# Altium integrated library TI Power Management Lighting and Display.IntLib: 745 symbols (part 20 of 48)
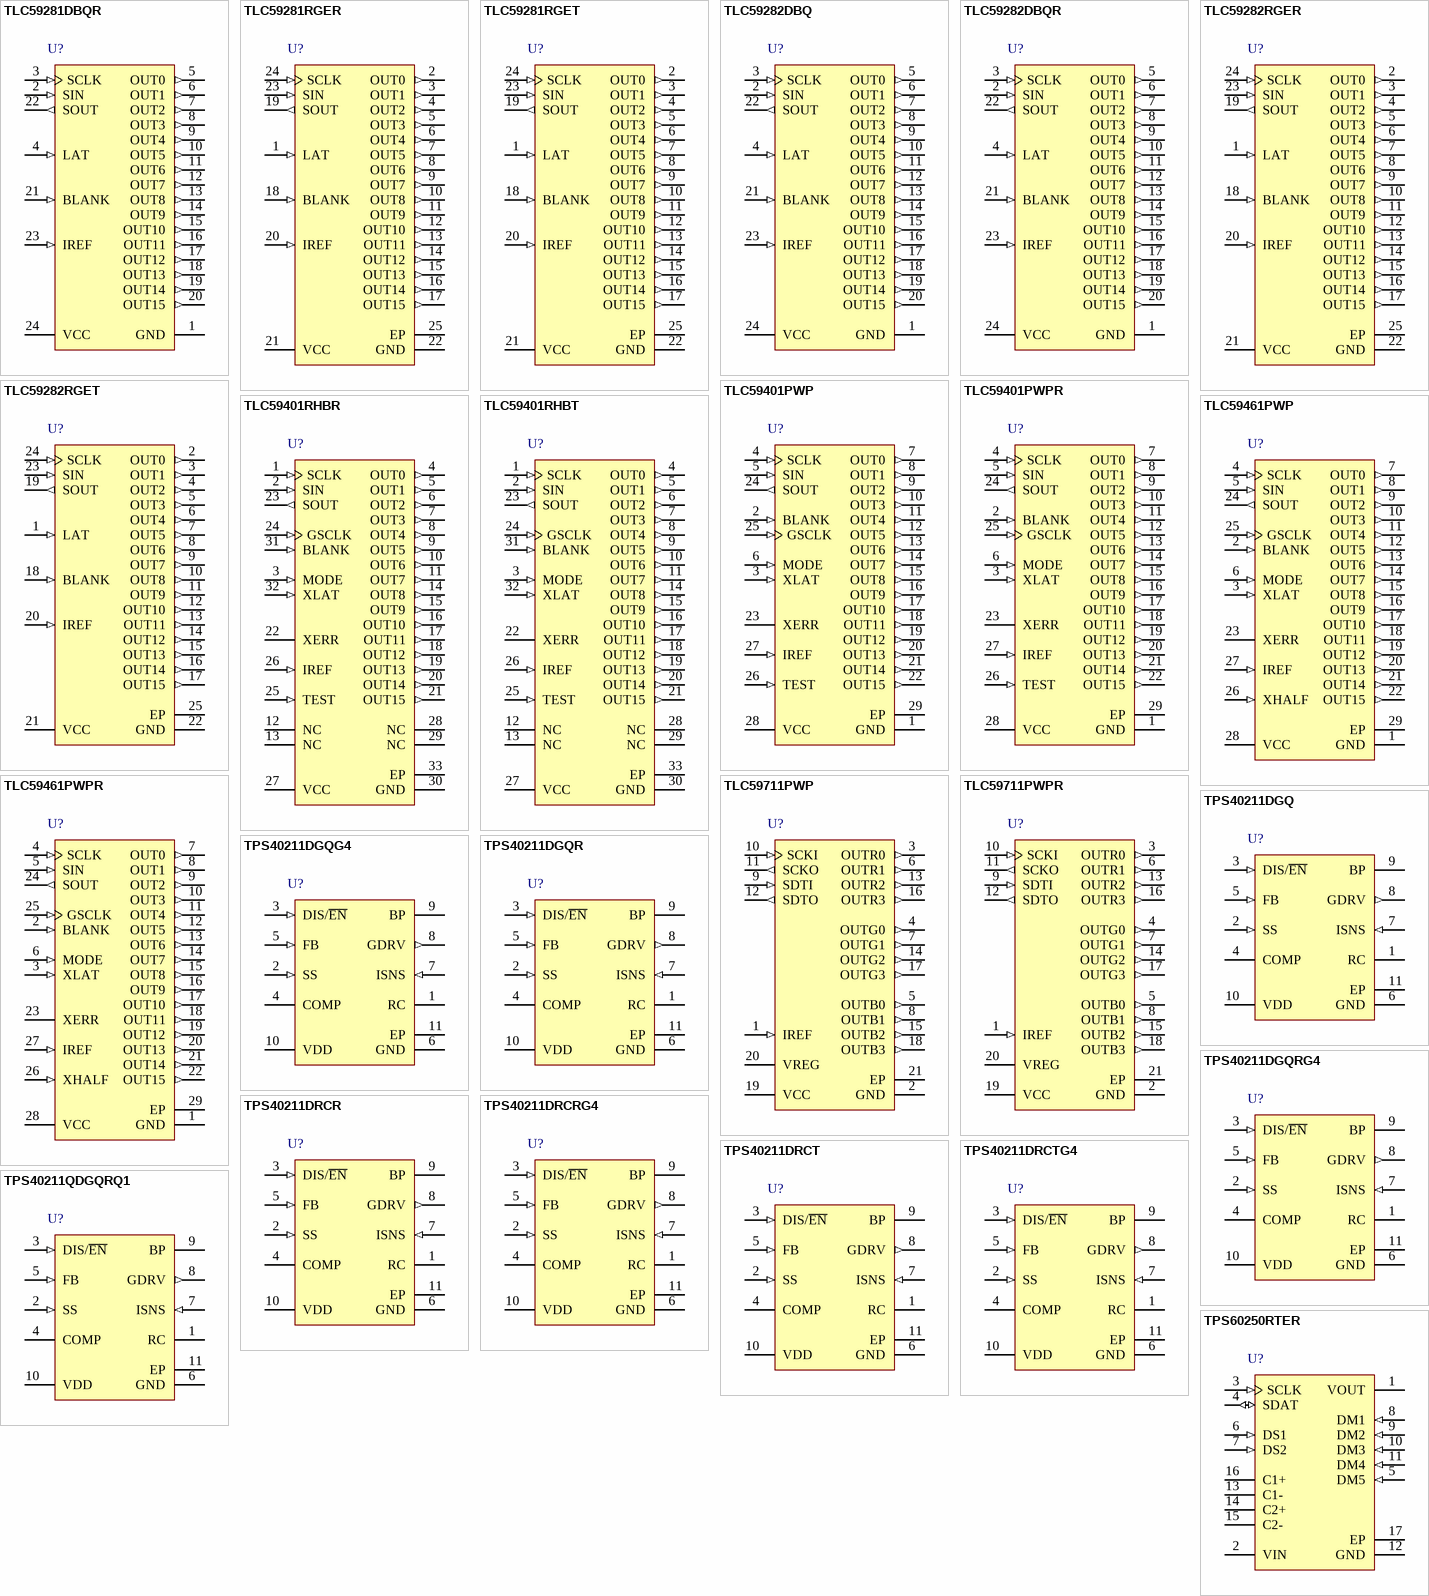
[diagram p50: symbols TLC59281DBQR to TPS60250RTER]

## TLC59281RGET
designator U?
16-Channel, Constant-Current LED Driver without LED Open Detection, 3 to 5.5 V, -40 to 85 degC, 24-pin QFN (RGE24), Green (RoHS & no Sb/Br); Manufacturer: Texas Instruments; PartNumber: TLC59281RGET; Rating: Catalog; Vin(Max)(V): 5.5; Vin(Min)(V): 3; DatasheetVersion: SBVS139B; PackageVersion: 4204104/G; PackageReference: RGE24-2100X2100TP; PackageDescription: 24-Pin Plastic Flat Pack, Body 4 x 4 mm, Pitch 0.5 mm; Supplier 1: Digi-Key; Supplier Part Number 1: 296-32360-2-ND; Supplier 2: Digi-Key; Supplier Part Number 2: 296-32360-1-ND; Supplier 3: Digi-Key; Supplier Part Number 3: 296-32360-6-ND; Supplier 4: Newark; Supplier Part Number 4: 72R6576; Supplier 5: Mouser; Supplier Part Number 5: 595-TLC59281RGET; Eco-Plan: Green (RoHS & no Sb/Br); SubFamily: LED Driver; Mounting Technology: Surface Mount; Code_JEDEC: MO-220; ComponentLink1Description: Manufacturer URL; ComponentLink1URL: http://www.ti.com/; ComponentLink2Description: Datasheet; ComponentLink2URL: http://www.ti.com/general/docs/lit/getliterature.tsp?genericPartNumber=TLC59281&fileType=pdf; ComponentLink3Description: Package Specification; ComponentLink3URL: http://www.ti.com/litv/pdf/mpqf124f
footprint TI-RGE24-2100X2100TP_V (QFN, 24-Leads, Body 4x4mm, Pitch 0.5mm, Thermal Pad 2.1x2.1mm)
pins: 1 LAT (in) "Edge triggered latch. The data in the on/off control data shift register are transferred to the on/off control data latch at this rising edge. At the same time, the data in the on/off control shift register are replaced with (See Datasheet)", 2 OUT0 (out) "Constant-current output.Each output can be tied together with others to increase the Constant-current. Different voltages can be applied to each output.", 3 OUT1 (out) "Constant-current output", 4 OUT2 (out) "Constant-current output", 5 OUT3 (out) "Constant-current output", 6 OUT4 (out) "Constant-current output", 7 OUT5 (out) "Constant-current output", 8 OUT6 (out) "Constant-current output", 9 OUT7 (out) "Constant-current output", 10 OUT8 (out) "Constant-current output", 11 OUT9 (out) "Constant-current output", 12 OUT10 (out) "Constant-current output", 13 OUT11 (out) "Constant-current output", 14 OUT12 (out) "Constant-current output", 15 OUT13 (out) "Constant-current output", 16 OUT14 (out) "Constant-current output", 17 OUT15 (out) "Constant-current output", 18 BLANK (in) "Blank, all outputs. When BLANK = high level, all constant-current outputs (OUT0-OUT15) are forced off.When BLANK=low level, all constant-current outputs are controlled by the on/off control data in the data latch.LOD and PTW (See Datasheet)", 19 SOUT (out) "Serial data onput. This output is connected to the MSB of the on/off data shift register .SOUT data changes at the rising edge of SCLK.", 20 IREF (in) "Constant-current value setting.OUT0-OUT15 sink Constant-current is set to desired value by connection to an external resistor between IREF and GND.", 21 VCC (power) "Power-supply voltage", 22 GND (power) "Power ground", 23 SIN (in) "Serial data input for driver on/off control. When SIN=high level, data '1' are written into LSB of the on/off control shift register at the rising edge of SCLK.", 24 SCLK (in) "Serial data shift clock. Schmitt buffer input. All data in the on/off control shift register are shifted toward the MSB by 1-bit synchronization of SCLK. A rising edge on SCLK is allowed 100 ns after a rising edge of LAT.", 25 EP (power) "Thermal pad is not connected to GND internally. The thermal pad must be connected to GND via the PCB pattern."

## TLC59282DBQ
designator U?
16-Channel Constant Current LED Driver with 4-Channel Grouped Delay, 3 to 5.5 V, -40 to 85 degC, 24-pin SOP (DBQ24), Green (RoHS & no Sb/Br); Manufacturer: Texas Instruments; PartNumber: TLC59282DBQ; Vin(Max)(V): 5.5; Vin(Min)(V): 3; DatasheetVersion: SBVS152C; PackageVersion: 4073301-4/H; PackageReference: DBQ24; PackageDescription: 24-Pin Plastic Small-Outline, Body 8.65 x 3.90 mm, Pitch 0.635 mm; Supplier 1: Digi-Key; Supplier Part Number 1: 296-31393-ND; Supplier 2: Newark; Supplier Part Number 2: 24T4761; Supplier 3: Mouser; Supplier Part Number 3: 595-TLC59282DBQ; Eco-Plan: Green (RoHS & no Sb/Br); SubFamily: LED Driver; Mounting Technology: Surface Mount; Code_JEDEC: MO-137; ComponentLink1Description: Manufacturer URL; ComponentLink1URL: http://www.ti.com/; ComponentLink2Description: Datasheet; ComponentLink2URL: http://www.ti.com/general/docs/lit/getliterature.tsp?genericPartNumber=TLC59282&fileType=pdf; ComponentLink3Description: Package Specification; ComponentLink3URL: http://www.ti.com/litv/pdf/mpds211a
footprint TI-DBQ24_N (SOP, 24-Leads, Body 8.65x6mm, Pitch 0.635mm, IPC Medium Density)
footprint TI-DBQ24_L (SOP, 24-Leads, Body 8.65x6mm, Pitch 0.635mm, IPC High Density)
footprint TI-DBQ24_M (SOP, 24-Leads, Body 8.65x6mm, Pitch 0.635mm, IPC Low Density)
pins: 1 GND (power) "Power ground", 2 SIN (in) "Serial data input for driver on/off control. When SIN=high level, data '1' are written into LSB of the on/off control shift register at the rising edge of SCLK.", 3 SCLK (in) "Serial data shift clock. Schmitt buffer input. All data in the on/off control shift register are shifted toward the MSB by 1-bit synchronization of SCLK. A rising edge on SCLK is allowed 100 ns after a rising edge of LAT.", 4 LAT (in) "Edge triggered latch. The data in the on/off control data shift register are transferred to the on/off control data latch at this rising edge. At the same time, the data in the on/off control shift register are replaced with (See Datasheet)", 5 OUT0 (out) "Constant-current output.Each output can be tied together with others to increase the Constant-current. Different voltages can be applied to each output.", 6 OUT1 (out) "Constant-current output", 7 OUT2 (out) "Constant-current output", 8 OUT3 (out) "Constant-current output", 9 OUT4 (out) "Constant-current output", 10 OUT5 (out) "Constant-current output", 11 OUT6 (out) "Constant-current output", 12 OUT7 (out) "Constant-current output", 13 OUT8 (out) "Constant-current output", 14 OUT9 (out) "Constant-current output", 15 OUT10 (out) "Constant-current output", 16 OUT11 (out) "Constant-current output", 17 OUT12 (out) "Constant-current output", 18 OUT13 (out) "Constant-current output", 19 OUT14 (out) "Constant-current output", 20 OUT15 (out) "Constant-current output", 21 BLANK (in) "Blank, all outputs. When BLANK = high level, all constant-current outputs (OUT0-OUT15) are forced off.When BLANK=low level, all constant-current outputs are controlled by the on/off control data in the data latch.LOD and PTW (See Datasheet)", 22 SOUT (out) "Serial data onput. This output is connected to the MSB of the on/off data shift register .SOUT data changes at the rising edge of SCLK.", 23 IREF (in) "Constant-current value setting.OUT0-OUT15 sink Constant-current is set to desired value by connection to an external resistor between IREF and GND.", 24 VCC (power) "Power-supply voltage"

## TLC59282DBQR
designator U?
16-Channel Constant Current LED Driver with 4-Channel Grouped Delay, 3 to 5.5 V, -40 to 85 degC, 24-pin SOP (DBQ24), Green (RoHS & no Sb/Br); Manufacturer: Texas Instruments; PartNumber: TLC59282DBQR; Vin(Max)(V): 5.5; Vin(Min)(V): 3; DatasheetVersion: SBVS152C; PackageVersion: 4073301-4/H; PackageReference: DBQ24; PackageDescription: 24-Pin Plastic Small-Outline, Body 8.65 x 3.90 mm, Pitch 0.635 mm; Supplier 1: Digi-Key; Supplier Part Number 1: 296-28098-2-ND; Supplier 2: Digi-Key; Supplier Part Number 2: 296-28098-1-ND; Supplier 3: Digi-Key; Supplier Part Number 3: 296-28098-6-ND; Supplier 4: Newark; Supplier Part Number 4: 24T4762; Supplier 5: Mouser; Supplier Part Number 5: 595-TLC59282DBQR; Eco-Plan: Green (RoHS & no Sb/Br); SubFamily: LED Driver; Mounting Technology: Surface Mount; Code_JEDEC: MO-137; ComponentLink1Description: Manufacturer URL; ComponentLink1URL: http://www.ti.com/; ComponentLink2Description: Datasheet; ComponentLink2URL: http://www.ti.com/general/docs/lit/getliterature.tsp?genericPartNumber=TLC59282&fileType=pdf; ComponentLink3Description: Package Specification; ComponentLink3URL: http://www.ti.com/litv/pdf/mpds211a
footprint TI-DBQ24_N (SOP, 24-Leads, Body 8.65x6mm, Pitch 0.635mm, IPC Medium Density)
footprint TI-DBQ24_L (SOP, 24-Leads, Body 8.65x6mm, Pitch 0.635mm, IPC High Density)
footprint TI-DBQ24_M (SOP, 24-Leads, Body 8.65x6mm, Pitch 0.635mm, IPC Low Density)
pins: 1 GND (power) "Power ground", 2 SIN (in) "Serial data input for driver on/off control. When SIN=high level, data '1' are written into LSB of the on/off control shift register at the rising edge of SCLK.", 3 SCLK (in) "Serial data shift clock. Schmitt buffer input. All data in the on/off control shift register are shifted toward the MSB by 1-bit synchronization of SCLK. A rising edge on SCLK is allowed 100 ns after a rising edge of LAT.", 4 LAT (in) "Edge triggered latch. The data in the on/off control data shift register are transferred to the on/off control data latch at this rising edge. At the same time, the data in the on/off control shift register are replaced with (See Datasheet)", 5 OUT0 (out) "Constant-current output.Each output can be tied together with others to increase the Constant-current. Different voltages can be applied to each output.", 6 OUT1 (out) "Constant-current output", 7 OUT2 (out) "Constant-current output", 8 OUT3 (out) "Constant-current output", 9 OUT4 (out) "Constant-current output", 10 OUT5 (out) "Constant-current output", 11 OUT6 (out) "Constant-current output", 12 OUT7 (out) "Constant-current output", 13 OUT8 (out) "Constant-current output", 14 OUT9 (out) "Constant-current output", 15 OUT10 (out) "Constant-current output", 16 OUT11 (out) "Constant-current output", 17 OUT12 (out) "Constant-current output", 18 OUT13 (out) "Constant-current output", 19 OUT14 (out) "Constant-current output", 20 OUT15 (out) "Constant-current output", 21 BLANK (in) "Blank, all outputs. When BLANK = high level, all constant-current outputs (OUT0-OUT15) are forced off.When BLANK=low level, all constant-current outputs are controlled by the on/off control data in the data latch.LOD and PTW (See Datasheet)", 22 SOUT (out) "Serial data onput. This output is connected to the MSB of the on/off data shift register .SOUT data changes at the rising edge of SCLK.", 23 IREF (in) "Constant-current value setting.OUT0-OUT15 sink Constant-current is set to desired value by connection to an external resistor between IREF and GND.", 24 VCC (power) "Power-supply voltage"

## TLC59282RGER
designator U?
16-Channel Constant Current LED Driver with 4-Channel Grouped Delay, 3 to 5.5 V, -40 to 85 degC, 24-pin QFN (RGE24), Green (RoHS & no Sb/Br); Manufacturer: Texas Instruments; PartNumber: TLC59282RGER; Vin(Max)(V): 5.5; Vin(Min)(V): 3; DatasheetVersion: SBVS152C; PackageVersion: 4204104/G; PackageReference: RGE24-2100X2100TP; PackageDescription: 24-Pin Plastic Flat Pack, Body 4 x 4 mm, Pitch 0.5 mm; Supplier 1: Digi-Key; Supplier Part Number 1: 296-29400-2-ND; Supplier 2: Digi-Key; Supplier Part Number 2: 296-29400-1-ND; Supplier 3: Digi-Key; Supplier Part Number 3: 296-29400-6-ND; Supplier 4: Mouser; Supplier Part Number 4: 595-TLC59282RGER; Eco-Plan: Green (RoHS & no Sb/Br); SubFamily: LED Driver; Mounting Technology: Surface Mount; Code_JEDEC: MO-220; ComponentLink1Description: Manufacturer URL; ComponentLink1URL: http://www.ti.com/; ComponentLink2Description: Datasheet; ComponentLink2URL: http://www.ti.com/general/docs/lit/getliterature.tsp?genericPartNumber=TLC59282&fileType=pdf; ComponentLink3Description: Package Specification; ComponentLink3URL: http://www.ti.com/litv/pdf/mpqf124f
footprint TI-RGE24-2100X2100TP_V (QFN, 24-Leads, Body 4x4mm, Pitch 0.5mm, Thermal Pad 2.1x2.1mm)
pins: 1 LAT (in) "Edge triggered latch. The data in the on/off control data shift register are transferred to the on/off control data latch at this rising edge. At the same time, the data in the on/off control shift register are replaced with (See Datasheet)", 2 OUT0 (out) "Constant-current output.Each output can be tied together with others to increase the Constant-current. Different voltages can be applied to each output.", 3 OUT1 (out) "Constant-current output", 4 OUT2 (out) "Constant-current output", 5 OUT3 (out) "Constant-current output", 6 OUT4 (out) "Constant-current output", 7 OUT5 (out) "Constant-current output", 8 OUT6 (out) "Constant-current output", 9 OUT7 (out) "Constant-current output", 10 OUT8 (out) "Constant-current output", 11 OUT9 (out) "Constant-current output", 12 OUT10 (out) "Constant-current output", 13 OUT11 (out) "Constant-current output", 14 OUT12 (out) "Constant-current output", 15 OUT13 (out) "Constant-current output", 16 OUT14 (out) "Constant-current output", 17 OUT15 (out) "Constant-current output", 18 BLANK (in) "Blank, all outputs. When BLANK = high level, all constant-current outputs (OUT0-OUT15) are forced off.When BLANK=low level, all constant-current outputs are controlled by the on/off control data in the data latch.LOD and PTW (See Datasheet)", 19 SOUT (out) "Serial data onput. This output is connected to the MSB of the on/off data shift register .SOUT data changes at the rising edge of SCLK.", 20 IREF (in) "Constant-current value setting.OUT0-OUT15 sink Constant-current is set to desired value by connection to an external resistor between IREF and GND.", 21 VCC (power) "Power-supply voltage", 22 GND (power) "Power ground", 23 SIN (in) "Serial data input for driver on/off control. When SIN=high level, data '1' are written into LSB of the on/off control shift register at the rising edge of SCLK.", 24 SCLK (in) "Serial data shift clock. Schmitt buffer input. All data in the on/off control shift register are shifted toward the MSB by 1-bit synchronization of SCLK. A rising edge on SCLK is allowed 100 ns after a rising edge of LAT.", 25 EP (power) "Thermal pad is not connected to GND internally. The thermal pad must be connected to GND via the PCB pattern."

## TLC59282RGET
designator U?
16-Channel Constant Current LED Driver with 4-Channel Grouped Delay, 3 to 5.5 V, -40 to 85 degC, 24-pin QFN (RGE24), Green (RoHS & no Sb/Br); Manufacturer: Texas Instruments; PartNumber: TLC59282RGET; Vin(Max)(V): 5.5; Vin(Min)(V): 3; DatasheetVersion: SBVS152C; PackageVersion: 4204104/G; PackageReference: RGE24-2100X2100TP; PackageDescription: 24-Pin Plastic Flat Pack, Body 4 x 4 mm, Pitch 0.5 mm; Supplier 1: Digi-Key; Supplier Part Number 1: 296-29518-2-ND; Supplier 2: Digi-Key; Supplier Part Number 2: 296-29518-1-ND; Supplier 3: Digi-Key; Supplier Part Number 3: 296-29518-6-ND; Supplier 4: Farnell; Supplier Part Number 4: 2057097; Supplier 5: Newark; Supplier Part Number 5: 64T4157; Supplier 6: Newark; Supplier Part Number 6: 61T6003; Supplier 7: Mouser; Supplier Part Number 7: 595-TLC59282RGET; Eco-Plan: Green (RoHS & no Sb/Br); SubFamily: LED Driver; Mounting Technology: Surface Mount; Code_JEDEC: MO-220; ComponentLink1Description: Manufacturer URL; ComponentLink1URL: http://www.ti.com/; ComponentLink2Description: Datasheet; ComponentLink2URL: http://www.ti.com/general/docs/lit/getliterature.tsp?genericPartNumber=TLC59282&fileType=pdf; ComponentLink3Description: Package Specification; ComponentLink3URL: http://www.ti.com/litv/pdf/mpqf124f
footprint TI-RGE24-2100X2100TP_V (QFN, 24-Leads, Body 4x4mm, Pitch 0.5mm, Thermal Pad 2.1x2.1mm)
pins: 1 LAT (in) "Edge triggered latch. The data in the on/off control data shift register are transferred to the on/off control data latch at this rising edge. At the same time, the data in the on/off control shift register are replaced with (See Datasheet)", 2 OUT0 (out) "Constant-current output.Each output can be tied together with others to increase the Constant-current. Different voltages can be applied to each output.", 3 OUT1 (out) "Constant-current output", 4 OUT2 (out) "Constant-current output", 5 OUT3 (out) "Constant-current output", 6 OUT4 (out) "Constant-current output", 7 OUT5 (out) "Constant-current output", 8 OUT6 (out) "Constant-current output", 9 OUT7 (out) "Constant-current output", 10 OUT8 (out) "Constant-current output", 11 OUT9 (out) "Constant-current output", 12 OUT10 (out) "Constant-current output", 13 OUT11 (out) "Constant-current output", 14 OUT12 (out) "Constant-current output", 15 OUT13 (out) "Constant-current output", 16 OUT14 (out) "Constant-current output", 17 OUT15 (out) "Constant-current output", 18 BLANK (in) "Blank, all outputs. When BLANK = high level, all constant-current outputs (OUT0-OUT15) are forced off.When BLANK=low level, all constant-current outputs are controlled by the on/off control data in the data latch.LOD and PTW (See Datasheet)", 19 SOUT (out) "Serial data onput. This output is connected to the MSB of the on/off data shift register .SOUT data changes at the rising edge of SCLK.", 20 IREF (in) "Constant-current value setting.OUT0-OUT15 sink Constant-current is set to desired value by connection to an external resistor between IREF and GND.", 21 VCC (power) "Power-supply voltage", 22 GND (power) "Power ground", 23 SIN (in) "Serial data input for driver on/off control. When SIN=high level, data '1' are written into LSB of the on/off control shift register at the rising edge of SCLK.", 24 SCLK (in) "Serial data shift clock. Schmitt buffer input. All data in the on/off control shift register are shifted toward the MSB by 1-bit synchronization of SCLK. A rising edge on SCLK is allowed 100 ns after a rising edge of LAT.", 25 EP (power) "Thermal pad is not connected to GND internally. The thermal pad must be connected to GND via the PCB pattern."

## TLC59401PWP
designator U?
16-Channel LED Driver with DOT Correction and Grayscale PWM Control, 3 to 5.5 V, -40 to 85 degC, 28-pin SOP (PWP28), Green (RoHS & no Sb/Br); Manufacturer: Texas Instruments; PartNumber: TLC59401PWP; Rating: Catalog; Vin(Max)(V): 5.5; Vin(Min)(V): 3; DatasheetVersion: SBVS137; PackageVersion: 4073225-6/I; PackageReference: PWP28-5720X1950TP; PackageDescription: 28-Pin Plastic Small Outline, Body 4.4 x 9.7 mm, Pitch 0.65 mm; Supplier 1: Digi-Key; Supplier Part Number 1: TLC59401PWP-ND; Supplier 2: Newark; Supplier Part Number 2: 64R0661; Supplier 3: Mouser; Supplier Part Number 3: 595-TLC59401PWP; Eco-Plan: Green (RoHS & no Sb/Br); SubFamily: LED Driver; Mounting Technology: Surface Mount; Code_JEDEC: MO-153; ComponentLink1Description: Manufacturer URL; ComponentLink1URL: http://www.ti.com/; ComponentLink2Description: Datasheet; ComponentLink2URL: http://www.ti.com/general/docs/lit/getliterature.tsp?genericPartNumber=TLC59401&fileType=pdf; ComponentLink3Description: Package Specification; ComponentLink3URL: http://www.ti.com/litv/pdf/mpds373
footprint TI-PWP28-5720X1950TP_N (SOP, 28-Leads, Body 9.7x4.4mm, Pitch 0.65mm, Thermal Pad 5.72 x 1.95mm, IPC Medium Density)
footprint TI-PWP28-5720X1950TP_L (SOP, 28-Leads, Body 9.7x4.4mm, Pitch 0.65mm, Thermal Pad 5.72 x 1.95mm, IPC High Density)
footprint TI-PWP28-5720X1950TP_M (SOP, 28-Leads, Body 9.7x4.4mm, Pitch 0.65mm, Thermal Pad 5.72 x 1.95mm, IPC Low Density)
pins: 1 GND (power) "Ground", 2 BLANK (in) "Blank all outputs. When BLANK is high, all OUTn outputs are forced OFF. GS counter is also reset. When BLANK is low, OUTn are controlled by the grayscale PWM control.", 3 XLAT (in) "Level triggered latch signal. When XLAT is high, the TLC59401 writes data from the input shift register to either GS register (MODE is low) or DC register (MODE is high). When XLAT is low, the data in the GS or DC registers (See Datasheet)", 4 SCLK (in) "Serial data shift clock", 5 SIN (in) "Serial data input", 6 MODE (in) "Input mode-change pin. When MODE = GND, the device is in GS mode. When MODE = VCC, the device is in DC mode.", 7 OUT0 (out) "Constant-current output. Multiple outputs can be configured in parallel to increase the constant-current capability. Different voltages can be applied to each output.", 8 OUT1 (out) "Constant-current output", 9 OUT2 (out) "Constant-current output", 10 OUT3 (out) "Constant-current output", 11 OUT4 (out) "Constant-current output", 12 OUT5 (out) "Constant-current output", 13 OUT6 (out) "Constant-current output", 14 OUT7 (out) "Constant-current output", 15 OUT8 (out) "Constant-current output", 16 OUT9 (out) "Constant-current output", 17 OUT10 (out) "Constant-current output", 18 OUT11 (out) "Constant-current output", 19 OUT12 (out) "Constant-current output", 20 OUT13 (out) "Constant-current output", 21 OUT14 (out) "Constant-current output", 22 OUT15 (out) "Constant-current output", 23 XERR (hiz) "Error output. XERR is an open-drain terminal. XERR goes low when LOD or TEF is detected.", 24 SOUT (out) "Serial data output", 25 GSCLK (in) "Reference clock for grayscale PWM control", 26 TEST (in) "Test pin: TEST must be connected to VCC", 27 IREF (in) "Reference current terminal. The maximum current for the outputs OUT0-OUT15 is set with a resistor from IREF to GND. Any capacitance does not need to be connected between IREF and GND.", 28 VCC (power) "Power-supply voltage", 29 EP

## TLC59401PWPR
designator U?
16-Channel LED Driver with DOT Correction and Grayscale PWM Control, 3 to 5.5 V, -40 to 85 degC, 28-pin SOP (PWP28), Green (RoHS & no Sb/Br); Manufacturer: Texas Instruments; PartNumber: TLC59401PWPR; Rating: Catalog; Vin(Max)(V): 5.5; Vin(Min)(V): 3; DatasheetVersion: SBVS137; PackageVersion: 4073225-6/I; PackageReference: PWP28-5720X1950TP; PackageDescription: 28-Pin Plastic Small Outline, Body 4.4 x 9.7 mm, Pitch 0.65 mm; Supplier 1: Digi-Key; Supplier Part Number 1: 296-25565-2-ND; Supplier 2: Digi-Key; Supplier Part Number 2: 296-25565-1-ND; Supplier 3: Digi-Key; Supplier Part Number 3: 296-25565-6-ND; Supplier 4: Newark; Supplier Part Number 4: 64R0662; Supplier 5: Mouser; Supplier Part Number 5: 595-TLC59401PWPR; Eco-Plan: Green (RoHS & no Sb/Br); SubFamily: LED Driver; Mounting Technology: Surface Mount; Code_JEDEC: MO-153; ComponentLink1Description: Manufacturer URL; ComponentLink1URL: http://www.ti.com/; ComponentLink2Description: Datasheet; ComponentLink2URL: http://www.ti.com/general/docs/lit/getliterature.tsp?genericPartNumber=TLC59401&fileType=pdf; ComponentLink3Description: Package Specification; ComponentLink3URL: http://www.ti.com/litv/pdf/mpds373
footprint TI-PWP28-5720X1950TP_N (SOP, 28-Leads, Body 9.7x4.4mm, Pitch 0.65mm, Thermal Pad 5.72 x 1.95mm, IPC Medium Density)
footprint TI-PWP28-5720X1950TP_L (SOP, 28-Leads, Body 9.7x4.4mm, Pitch 0.65mm, Thermal Pad 5.72 x 1.95mm, IPC High Density)
footprint TI-PWP28-5720X1950TP_M (SOP, 28-Leads, Body 9.7x4.4mm, Pitch 0.65mm, Thermal Pad 5.72 x 1.95mm, IPC Low Density)
pins: 1 GND (power) "Ground", 2 BLANK (in) "Blank all outputs. When BLANK is high, all OUTn outputs are forced OFF. GS counter is also reset. When BLANK is low, OUTn are controlled by the grayscale PWM control.", 3 XLAT (in) "Level triggered latch signal. When XLAT is high, the TLC59401 writes data from the input shift register to either GS register (MODE is low) or DC register (MODE is high). When XLAT is low, the data in the GS or DC registers (See Datasheet)", 4 SCLK (in) "Serial data shift clock", 5 SIN (in) "Serial data input", 6 MODE (in) "Input mode-change pin. When MODE = GND, the device is in GS mode. When MODE = VCC, the device is in DC mode.", 7 OUT0 (out) "Constant-current output. Multiple outputs can be configured in parallel to increase the constant-current capability. Different voltages can be applied to each output.", 8 OUT1 (out) "Constant-current output", 9 OUT2 (out) "Constant-current output", 10 OUT3 (out) "Constant-current output", 11 OUT4 (out) "Constant-current output", 12 OUT5 (out) "Constant-current output", 13 OUT6 (out) "Constant-current output", 14 OUT7 (out) "Constant-current output", 15 OUT8 (out) "Constant-current output", 16 OUT9 (out) "Constant-current output", 17 OUT10 (out) "Constant-current output", 18 OUT11 (out) "Constant-current output", 19 OUT12 (out) "Constant-current output", 20 OUT13 (out) "Constant-current output", 21 OUT14 (out) "Constant-current output", 22 OUT15 (out) "Constant-current output", 23 XERR (hiz) "Error output. XERR is an open-drain terminal. XERR goes low when LOD or TEF is detected.", 24 SOUT (out) "Serial data output", 25 GSCLK (in) "Reference clock for grayscale PWM control", 26 TEST (in) "Test pin: TEST must be connected to VCC", 27 IREF (in) "Reference current terminal. The maximum current for the outputs OUT0-OUT15 is set with a resistor from IREF to GND. Any capacitance does not need to be connected between IREF and GND.", 28 VCC (power) "Power-supply voltage", 29 EP

## TLC59401RHBR
designator U?
16-Channel LED Driver with DOT Correction and Grayscale PWM Control, 3 to 5.5 V, -40 to 85 degC, 32-pin QFN (RHB32), Green (RoHS & no Sb/Br); Manufacturer: Texas Instruments; PartNumber: TLC59401RHBR; Rating: Catalog; Vin(Max)(V): 5.5; Vin(Min)(V): 3; DatasheetVersion: SBVS137; PackageVersion: 4204326/D; PackageReference: RHB32-3150X3150TP; PackageDescription: 32-Pin Plastic Flat Pack, Body 5 x 5 mm, Pitch 0.5 mm; Supplier 1: Digi-Key; Supplier Part Number 1: 296-25566-2-ND; Supplier 2: Digi-Key; Supplier Part Number 2: 296-25566-1-ND; Supplier 3: Digi-Key; Supplier Part Number 3: 296-25566-6-ND; Supplier 4: Mouser; Supplier Part Number 4: 595-TLC59401RHBR; Eco-Plan: Green (RoHS & no Sb/Br); SubFamily: LED Driver; Mounting Technology: Surface Mount; Code_JEDEC: MO-220; ComponentLink1Description: Manufacturer URL; ComponentLink1URL: http://www.ti.com/; ComponentLink2Description: Datasheet; ComponentLink2URL: http://www.ti.com/general/docs/lit/getliterature.tsp?genericPartNumber=TLC59401&fileType=pdf; ComponentLink3Description: Package Specification; ComponentLink3URL: http://www.ti.com/lit/ml/mpqf130c/mpqf130c.pdf
footprint TI-RHB32-3150X3150TP_V (QFN, 32-Leads, Body 5x5mm, Pitch 0.5mm, Thermal Pad 3.15x3.15mm)
pins: 1 SCLK (in) "Serial data shift clock", 2 SIN (in) "Serial data input", 3 MODE (in) "Input mode-change pin. When MODE = GND, the device is in GS mode. When MODE = VCC, the device is in DC mode.", 4 OUT0 (out) "Constant-current output. Multiple outputs can be configured in parallel to increase the constant-current capability. Different voltages can be applied to each output.", 5 OUT1 (out) "Constant-current output", 6 OUT2 (out) "Constant-current output", 7 OUT3 (out) "Constant-current output", 8 OUT4 (out) "Constant-current output", 9 OUT5 (out) "Constant-current output", 10 OUT6 (out) "Constant-current output", 11 OUT7 (out) "Constant-current output", 12 NC "No connection", 13 NC "No connection", 14 OUT8 (out) "Constant-current output", 15 OUT9 (out) "Constant-current output", 16 OUT10 (out) "Constant-current output", 17 OUT11 (out) "Constant-current output", 18 OUT12 (out) "Constant-current output", 19 OUT13 (out) "Constant-current output", 20 OUT14 (out) "Constant-current output", 21 OUT15 (out) "Constant-current output", 22 XERR (hiz) "Error output. XERR is an open-drain terminal. XERR goes low when LOD or TEF is detected.", 23 SOUT (out) "Serial data output", 24 GSCLK (in) "Reference clock for grayscale PWM control", 25 TEST (in) "Test pin: TEST must be connected to VCC", 26 IREF (in) "Reference current terminal. The maximum current for the outputs OUT0-OUT15 is set with a resistor from IREF to GND. Any capacitance does not need to be connected between IREF and GND.", 27 VCC (power) "Power-supply voltage", 28 NC "No connection", 29 NC "No connection", 30 GND (power) "Ground", 31 BLANK (in) "Blank all outputs. When BLANK is high, all OUTn outputs are forced OFF. GS counter is also reset. When BLANK is low, OUTn are controlled by the grayscale PWM control.", 32 XLAT (in) "Level triggered latch signal. When XLAT is high, the TLC59401 writes data from the input shift register to either GS register (MODE is low) or DC register (MODE is high). When XLAT is low, the data in the GS or DC registers (See Datasheet)", 33 EP

## TLC59401RHBT
designator U?
16-Channel LED Driver with DOT Correction and Grayscale PWM Control, 3 to 5.5 V, -40 to 85 degC, 32-pin QFN (RHB32), Green (RoHS & no Sb/Br); Manufacturer: Texas Instruments; PartNumber: TLC59401RHBT; Rating: Catalog; Vin(Max)(V): 5.5; Vin(Min)(V): 3; DatasheetVersion: SBVS137; PackageVersion: 4204326/D; PackageReference: RHB32-3150X3150TP; PackageDescription: 32-Pin Plastic Flat Pack, Body 5 x 5 mm, Pitch 0.5 mm; Supplier 1: Digi-Key; Supplier Part Number 1: 296-32361-2-ND; Supplier 2: Digi-Key; Supplier Part Number 2: 296-32361-1-ND; Supplier 3: Digi-Key; Supplier Part Number 3: 296-32361-6-ND; Supplier 4: Newark; Supplier Part Number 4: 64R0664; Supplier 5: Mouser; Supplier Part Number 5: 595-TLC59401RHBT; Eco-Plan: Green (RoHS & no Sb/Br); SubFamily: LED Driver; Mounting Technology: Surface Mount; Code_JEDEC: MO-220; ComponentLink1Description: Manufacturer URL; ComponentLink1URL: http://www.ti.com/; ComponentLink2Description: Datasheet; ComponentLink2URL: http://www.ti.com/general/docs/lit/getliterature.tsp?genericPartNumber=TLC59401&fileType=pdf; ComponentLink3Description: Package Specification; ComponentLink3URL: http://www.ti.com/lit/ml/mpqf130c/mpqf130c.pdf
footprint TI-RHB32-3150X3150TP_V (QFN, 32-Leads, Body 5x5mm, Pitch 0.5mm, Thermal Pad 3.15x3.15mm)
pins: 1 SCLK (in) "Serial data shift clock", 2 SIN (in) "Serial data input", 3 MODE (in) "Input mode-change pin. When MODE = GND, the device is in GS mode. When MODE = VCC, the device is in DC mode.", 4 OUT0 (out) "Constant-current output. Multiple outputs can be configured in parallel to increase the constant-current capability. Different voltages can be applied to each output.", 5 OUT1 (out) "Constant-current output", 6 OUT2 (out) "Constant-current output", 7 OUT3 (out) "Constant-current output", 8 OUT4 (out) "Constant-current output", 9 OUT5 (out) "Constant-current output", 10 OUT6 (out) "Constant-current output", 11 OUT7 (out) "Constant-current output", 12 NC "No connection", 13 NC "No connection", 14 OUT8 (out) "Constant-current output", 15 OUT9 (out) "Constant-current output", 16 OUT10 (out) "Constant-current output", 17 OUT11 (out) "Constant-current output", 18 OUT12 (out) "Constant-current output", 19 OUT13 (out) "Constant-current output", 20 OUT14 (out) "Constant-current output", 21 OUT15 (out) "Constant-current output", 22 XERR (hiz) "Error output. XERR is an open-drain terminal. XERR goes low when LOD or TEF is detected.", 23 SOUT (out) "Serial data output", 24 GSCLK (in) "Reference clock for grayscale PWM control", 25 TEST (in) "Test pin: TEST must be connected to VCC", 26 IREF (in) "Reference current terminal. The maximum current for the outputs OUT0-OUT15 is set with a resistor from IREF to GND. Any capacitance does not need to be connected between IREF and GND.", 27 VCC (power) "Power-supply voltage", 28 NC "No connection", 29 NC "No connection", 30 GND (power) "Ground", 31 BLANK (in) "Blank all outputs. When BLANK is high, all OUTn outputs are forced OFF. GS counter is also reset. When BLANK is low, OUTn are controlled by the grayscale PWM control.", 32 XLAT (in) "Level triggered latch signal. When XLAT is high, the TLC59401 writes data from the input shift register to either GS register (MODE is low) or DC register (MODE is high). When XLAT is low, the data in the GS or DC registers (See Datasheet)", 33 EP

## TLC59461PWP
designator U?
16-Channel, 12-Bit PWM LED Driver, 6-Bit DOT Correction, 3 to 5.5 V, -40 to 85 degC, 28-pin SOP (PWP28), Green (RoHS & no Sb/Br); Manufacturer: Texas Instruments; PartNumber: TLC59461PWP; Iout(Max)(A): 0.05; Rating: Catalog; Vin(Max)(V): 5.5; Vin(Min)(V): 3; DatasheetVersion: SLVS896A; PackageVersion: 4073225-6/I; PackageReference: PWP28-5720X1950TP; PackageDescription: 28-Pin Plastic Small Outline, Body 4.4 x 9.7 mm, Pitch 0.65 mm; Supplier 1: Digi-Key; Supplier Part Number 1: 296-24399-5-ND; Supplier 2: Newark; Supplier Part Number 2: 09R6486; Supplier 3: Mouser; Supplier Part Number 3: 595-TLC59461PWP; Eco-Plan: Green (RoHS & no Sb/Br); SubFamily: LED Driver; Mounting Technology: Surface Mount; Code_JEDEC: MO-153; ComponentLink1Description: Manufacturer URL; ComponentLink1URL: http://www.ti.com/; ComponentLink2Description: Datasheet; ComponentLink2URL: http://www.ti.com/general/docs/lit/getliterature.tsp?genericPartNumber=TLC59461&fileType=pdf; ComponentLink3Description: Package Specification; ComponentLink3URL: http://www.ti.com/litv/pdf/mpds373
footprint TI-PWP28-5720X1950TP_N (SOP, 28-Leads, Body 9.7x4.4mm, Pitch 0.65mm, Thermal Pad 5.72 x 1.95mm, IPC Medium Density)
footprint TI-PWP28-5720X1950TP_L (SOP, 28-Leads, Body 9.7x4.4mm, Pitch 0.65mm, Thermal Pad 5.72 x 1.95mm, IPC High Density)
footprint TI-PWP28-5720X1950TP_M (SOP, 28-Leads, Body 9.7x4.4mm, Pitch 0.65mm, Thermal Pad 5.72 x 1.95mm, IPC Low Density)
pins: 1 GND (power) "Ground", 2 BLANK (in) "Blank (all constant-current outputs off). When BLANK is high, all constant-current outputs (OUT0 through OUT15) are forced off, the Grayscale PWM timing controller initializes and the Grayscale counter resets to '0'. When (See Datasheet)", 3 XLAT (in) "Edge triggered latch signal. At the rising edge of XLAT, the TLC59461 writes data from the input shift register to either the Dot Correction register (MODE = high) or the Grayscale register (MODE = low).", 4 SCLK (in) "Serial data shift clock", 5 SIN (in) "Serial data input", 6 MODE (in) "Input mode pin. When MODE is high, the input mode is dot correction (DC). When MODE is low, the input mode is grayscale (GS).", 7 OUT0 (out) "Constant-current output", 8 OUT1 (out) "Constant-current output", 9 OUT2 (out) "Constant-current output", 10 OUT3 (out) "Constant-current output", 11 OUT4 (out) "Constant-current output", 12 OUT5 (out) "Constant-current output", 13 OUT6 (out) "Constant-current output", 14 OUT7 (out) "Constant-current output", 15 OUT8 (out) "Constant-current output", 16 OUT9 (out) "Constant-current output", 17 OUT10 (out) "Constant-current output", 18 OUT11 (out) "Constant-current output", 19 OUT12 (out) "Constant-current output", 20 OUT13 (out) "Constant-current output", 21 OUT14 (out) "Constant-current output", 22 OUT15 (out) "Constant-current output", 23 XERR (hiz) "Error output. Open-drain output. XERR goes low when LOD or TEF is detected.", 24 SOUT (out) "Serial data output", 25 GSCLK (in) "Reference clock for Grayscale PWM control.", 26 XHALF (in) "Extended serial interface. When XHALF is high, the device operates normally. When XHALF is low, the extended serial interface is activated.", 27 IREF (in) "This pin sets the constant-current value. OUT0 through OUT15 sink constant-current is set to desired value by connecting an external resistor between IREF and GND.", 28 VCC (power) "Power-supply voltage", 29 EP "Exposed Thermal Pad"

## TLC59461PWPR
designator U?
16-Channel, 12-Bit PWM LED Driver, 6-Bit DOT Correction, 3 to 5.5 V, -40 to 85 degC, 28-pin SOP (PWP28), Green (RoHS & no Sb/Br); Manufacturer: Texas Instruments; PartNumber: TLC59461PWPR; Iout(Max)(A): 0.05; Rating: Catalog; Vin(Max)(V): 5.5; Vin(Min)(V): 3; DatasheetVersion: SLVS896A; PackageVersion: 4073225-6/I; PackageReference: PWP28-5720X1950TP; PackageDescription: 28-Pin Plastic Small Outline, Body 4.4 x 9.7 mm, Pitch 0.65 mm; Supplier 1: Digi-Key; Supplier Part Number 1: TLC59461PWPR-ND; Supplier 2: Newark; Supplier Part Number 2: 09R6487; Supplier 3: Mouser; Supplier Part Number 3: 595-TLC59461PWPR; Eco-Plan: Green (RoHS & no Sb/Br); SubFamily: LED Driver; Mounting Technology: Surface Mount; Code_JEDEC: MO-153; ComponentLink1Description: Manufacturer URL; ComponentLink1URL: http://www.ti.com/; ComponentLink2Description: Datasheet; ComponentLink2URL: http://www.ti.com/general/docs/lit/getliterature.tsp?genericPartNumber=TLC59461&fileType=pdf; ComponentLink3Description: Package Specification; ComponentLink3URL: http://www.ti.com/litv/pdf/mpds373
footprint TI-PWP28-5720X1950TP_N (SOP, 28-Leads, Body 9.7x4.4mm, Pitch 0.65mm, Thermal Pad 5.72 x 1.95mm, IPC Medium Density)
footprint TI-PWP28-5720X1950TP_L (SOP, 28-Leads, Body 9.7x4.4mm, Pitch 0.65mm, Thermal Pad 5.72 x 1.95mm, IPC High Density)
footprint TI-PWP28-5720X1950TP_M (SOP, 28-Leads, Body 9.7x4.4mm, Pitch 0.65mm, Thermal Pad 5.72 x 1.95mm, IPC Low Density)
pins: 1 GND (power) "Ground", 2 BLANK (in) "Blank (all constant-current outputs off). When BLANK is high, all constant-current outputs (OUT0 through OUT15) are forced off, the Grayscale PWM timing controller initializes and the Grayscale counter resets to '0'. When (See Datasheet)", 3 XLAT (in) "Edge triggered latch signal. At the rising edge of XLAT, the TLC59461 writes data from the input shift register to either the Dot Correction register (MODE = high) or the Grayscale register (MODE = low).", 4 SCLK (in) "Serial data shift clock", 5 SIN (in) "Serial data input", 6 MODE (in) "Input mode pin. When MODE is high, the input mode is dot correction (DC). When MODE is low, the input mode is grayscale (GS).", 7 OUT0 (out) "Constant-current output", 8 OUT1 (out) "Constant-current output", 9 OUT2 (out) "Constant-current output", 10 OUT3 (out) "Constant-current output", 11 OUT4 (out) "Constant-current output", 12 OUT5 (out) "Constant-current output", 13 OUT6 (out) "Constant-current output", 14 OUT7 (out) "Constant-current output", 15 OUT8 (out) "Constant-current output", 16 OUT9 (out) "Constant-current output", 17 OUT10 (out) "Constant-current output", 18 OUT11 (out) "Constant-current output", 19 OUT12 (out) "Constant-current output", 20 OUT13 (out) "Constant-current output", 21 OUT14 (out) "Constant-current output", 22 OUT15 (out) "Constant-current output", 23 XERR (hiz) "Error output. Open-drain output. XERR goes low when LOD or TEF is detected.", 24 SOUT (out) "Serial data output", 25 GSCLK (in) "Reference clock for Grayscale PWM control.", 26 XHALF (in) "Extended serial interface. When XHALF is high, the device operates normally. When XHALF is low, the extended serial interface is activated.", 27 IREF (in) "This pin sets the constant-current value. OUT0 through OUT15 sink constant-current is set to desired value by connecting an external resistor between IREF and GND.", 28 VCC (power) "Power-supply voltage", 29 EP "Exposed Thermal Pad"

## TLC59711PWP
designator U?
12-Channel, 16-Bit, ES-PWM RGB LED Driver with 3.3 V Linear Regulator and Watchdog Timer, 4 to 17 V, -40 to 85 degC, 20-pin SOP (PWP20), Green (RoHS & no Sb/Br); Manufacturer: Texas Instruments; PartNumber: TLC59711PWP; Dimming: TRUE; Iout(Max)(A): 0.075; Rating: Catalog; Vin(Max)(V): 17; Vin(Min)(V): 4; DatasheetVersion: SBVS181A; PackageVersion: 4073225-4/I; PackageReference: PWP20-2965X2290TP; PackageDescription: 20-Lead, Plastic Small Outline, Body Size 4.4 x 6.5 mm, Pitch 0.65 mm; Supplier 1: Digi-Key; Supplier Part Number 1: TLC59711PWP-ND; Supplier 2: Newark; Supplier Part Number 2: 87T3934; Supplier 3: Mouser; Supplier Part Number 3: 595-TLC59711PWP; Eco-Plan: Green (RoHS & no Sb/Br); SubFamily: LED Driver; Mounting Technology: Surface Mount; Code_JEDEC: MO-153; ComponentLink1Description: Manufacturer URL; ComponentLink1URL: http://www.ti.com/; ComponentLink2Description: Datasheet; ComponentLink2URL: http://www.ti.com/general/docs/lit/getliterature.tsp?genericPartNumber=TLC59711&fileType=pdf; ComponentLink3Description: Package Specification; ComponentLink3URL: http://www.ti.com/litv/pdf/mhts001g
footprint TI-PWP20-2965X2290TP_N (SOP, 20-Leads, Body 6.5x4.4mm, Pitch 0.65mm, Thermal Pad 2.965x2.29mm, IPC Medium Density)
footprint TI-PWP20-2965X2290TP_L (SOP, 20-Leads, Body 6.5x4.4mm, Pitch 0.65mm, Thermal Pad 2.965x2.29mm, IPC High Density)
footprint TI-PWP20-2965X2290TP_M (SOP, 20-Leads, Body 6.5x4.4mm, Pitch 0.65mm, Thermal Pad 2.965x2.29mm, IPC Low Density)
pins: 1 IREF (in) "Maximum current programming terminal. A resistor connected between IREF and GND sets the maximum current for every constant-current output. When this terminal is directly connected to GND, all outputs are forced off. The (See Datasheet)", 2 GND (power) "Power ground terminal", 3 OUTR0 (out) "RED constant-current outputs. Multiple outputs can be configured in parallel to increase the constant-current capability. Different voltages can be applied to each output.", 4 OUTG0 (out) "GREEN constant-current outputs. Multiple outputs can be configured in parallel to increase the constant-current capability. Different voltages can be applied to each output.", 5 OUTB0 (out) "BLUE constant-current outputs. Multiple outputs can be configured in parallel to increase the constant-current capability. Different voltages can be applied to each output.", 6 OUTR1 (out) "RED constant-current outputs. Multiple outputs can be configured in parallel to increase the constant-current capability. Different voltages can be applied to each output.", 7 OUTG1 (out) "GREEN constant-current outputs. Multiple outputs can be configured in parallel to increase the constant-current capability. Different voltages can be applied to each output.", 8 OUTB1 (out) "BLUE constant-current outputs. Multiple outputs can be configured in parallel to increase the constant-current capability. Different voltages can be applied to each output.", 9 SDTI (in) "Serial data input for the 224-bit shift register", 10 SCKI (in) "Serial data shift clock input. Data present on SDTI are shifted to the LSB of the 224-bit shift register with the SCKI rising edge Data in the shift register are shifted toward the MSB at each SCKI rising edge. The MSB data (See Datasheet)", 11 SCKO (out) "Serial data shift clock output. The input shift clock signal from SCKI is adjusted to the timing of the serial data output for SDTO and the signal is then output at SCKO.", 12 SDTO (out) "Serial data output of the 224-bit shift register. SDTO is connected to the MSB of the 224-bit shift register. Data are clocked out at the falling edge SCKO.", 13 OUTR2 (out) "RED constant-current outputs. Multiple outputs can be configured in parallel to increase the constant-current capability. Different voltages can be applied to each output.", 14 OUTG2 (out) "GREEN constant-current outputs. Multiple outputs can be configured in parallel to increase the constant-current capability. Different voltages can be applied to each output.", 15 OUTB2 (out) "BLUE constant-current outputs. Multiple outputs can be configured in parallel to increase the constant-current capability. Different voltages can be applied to each output.", 16 OUTR3 (out) "RED constant-current outputs. Multiple outputs can be configured in parallel to increase the constant-current capability. Different voltages can be applied to each output.", 17 OUTG3 (out) "GREEN constant-current outputs. Multiple outputs can be configured in parallel to increase the constant-current capability. Different voltages can be applied to each output.", 18 OUTB3 (out) "BLUE constant-current outputs. Multiple outputs can be configured in parallel to increase the constant-current capability. Different voltages can be applied to each output.", 19 VCC (power) "Power-supply terminal", 20 VREG (power) "Internal linear voltage regulator output. A decoupling capacitor of 1 uF must be connected. This output can be used for external devices as a 3.3- V power supply. This terminal can be connected with the VREG terminal of (See Datasheet)", 21 EP (power) "Exposed Pad"

## TLC59711PWPR
designator U?
12-Channel, 16-Bit, ES-PWM RGB LED Driver with 3.3 V Linear Regulator and Watchdog Timer, 4 to 17 V, -40 to 85 degC, 20-pin SOP (PWP20), Green (RoHS & no Sb/Br); Manufacturer: Texas Instruments; PartNumber: TLC59711PWPR; Dimming: TRUE; Iout(Max)(A): 0.075; Rating: Catalog; Vin(Max)(V): 17; Vin(Min)(V): 4; DatasheetVersion: SBVS181A; PackageVersion: 4073225-4/I; PackageReference: PWP20-2965X2290TP; PackageDescription: 20-Lead, Plastic Small Outline, Body Size 4.4 x 6.5 mm, Pitch 0.65 mm; Supplier 1: Digi-Key; Supplier Part Number 1: TLC59711PWPR-ND; Supplier 2: Newark; Supplier Part Number 2: 87T3935; Supplier 3: Mouser; Supplier Part Number 3: 595-TLC59711PWPR; Eco-Plan: Green (RoHS & no Sb/Br); SubFamily: LED Driver; Mounting Technology: Surface Mount; Code_JEDEC: MO-153; ComponentLink1Description: Manufacturer URL; ComponentLink1URL: http://www.ti.com/; ComponentLink2Description: Datasheet; ComponentLink2URL: http://www.ti.com/general/docs/lit/getliterature.tsp?genericPartNumber=TLC59711&fileType=pdf; ComponentLink3Description: Package Specification; ComponentLink3URL: http://www.ti.com/litv/pdf/mhts001g
footprint TI-PWP20-2965X2290TP_N (SOP, 20-Leads, Body 6.5x4.4mm, Pitch 0.65mm, Thermal Pad 2.965x2.29mm, IPC Medium Density)
footprint TI-PWP20-2965X2290TP_L (SOP, 20-Leads, Body 6.5x4.4mm, Pitch 0.65mm, Thermal Pad 2.965x2.29mm, IPC High Density)
footprint TI-PWP20-2965X2290TP_M (SOP, 20-Leads, Body 6.5x4.4mm, Pitch 0.65mm, Thermal Pad 2.965x2.29mm, IPC Low Density)
pins: 1 IREF (in) "Maximum current programming terminal. A resistor connected between IREF and GND sets the maximum current for every constant-current output. When this terminal is directly connected to GND, all outputs are forced off. The (See Datasheet)", 2 GND (power) "Power ground terminal", 3 OUTR0 (out) "RED constant-current outputs. Multiple outputs can be configured in parallel to increase the constant-current capability. Different voltages can be applied to each output.", 4 OUTG0 (out) "GREEN constant-current outputs. Multiple outputs can be configured in parallel to increase the constant-current capability. Different voltages can be applied to each output.", 5 OUTB0 (out) "BLUE constant-current outputs. Multiple outputs can be configured in parallel to increase the constant-current capability. Different voltages can be applied to each output.", 6 OUTR1 (out) "RED constant-current outputs. Multiple outputs can be configured in parallel to increase the constant-current capability. Different voltages can be applied to each output.", 7 OUTG1 (out) "GREEN constant-current outputs. Multiple outputs can be configured in parallel to increase the constant-current capability. Different voltages can be applied to each output.", 8 OUTB1 (out) "BLUE constant-current outputs. Multiple outputs can be configured in parallel to increase the constant-current capability. Different voltages can be applied to each output.", 9 SDTI (in) "Serial data input for the 224-bit shift register", 10 SCKI (in) "Serial data shift clock input. Data present on SDTI are shifted to the LSB of the 224-bit shift register with the SCKI rising edge Data in the shift register are shifted toward the MSB at each SCKI rising edge. The MSB data (See Datasheet)", 11 SCKO (out) "Serial data shift clock output. The input shift clock signal from SCKI is adjusted to the timing of the serial data output for SDTO and the signal is then output at SCKO.", 12 SDTO (out) "Serial data output of the 224-bit shift register. SDTO is connected to the MSB of the 224-bit shift register. Data are clocked out at the falling edge SCKO.", 13 OUTR2 (out) "RED constant-current outputs. Multiple outputs can be configured in parallel to increase the constant-current capability. Different voltages can be applied to each output.", 14 OUTG2 (out) "GREEN constant-current outputs. Multiple outputs can be configured in parallel to increase the constant-current capability. Different voltages can be applied to each output.", 15 OUTB2 (out) "BLUE constant-current outputs. Multiple outputs can be configured in parallel to increase the constant-current capability. Different voltages can be applied to each output.", 16 OUTR3 (out) "RED constant-current outputs. Multiple outputs can be configured in parallel to increase the constant-current capability. Different voltages can be applied to each output.", 17 OUTG3 (out) "GREEN constant-current outputs. Multiple outputs can be configured in parallel to increase the constant-current capability. Different voltages can be applied to each output.", 18 OUTB3 (out) "BLUE constant-current outputs. Multiple outputs can be configured in parallel to increase the constant-current capability. Different voltages can be applied to each output.", 19 VCC (power) "Power-supply terminal", 20 VREG (power) "Internal linear voltage regulator output. A decoupling capacitor of 1 uF must be connected. This output can be used for external devices as a 3.3- V power supply. This terminal can be connected with the VREG terminal of (See Datasheet)", 21 EP (power) "Exposed Pad"